# EAGLE library part MAXIM-MAX1168 (library personal)
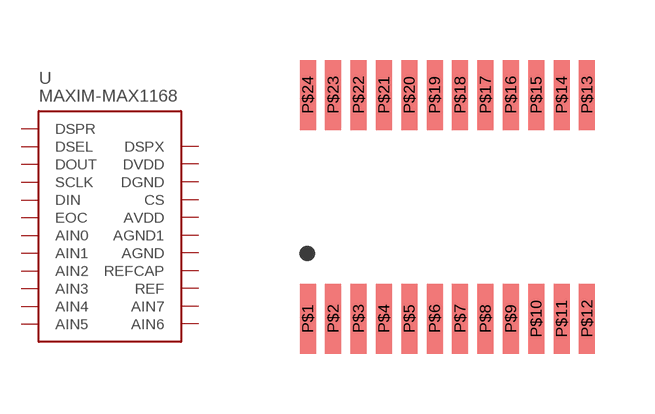
[diagram p4: symbol with the pads of QSOP-24; footprint QSOP-24]

Designator prefix U

## MAXIM-MAX1168  [QSOP-24]
P$1  DSPR  pas
P$2  DSEL  pas
P$3  DOUT  pas
P$4  SCLK  pas
P$5  DIN  pas
P$6  EOC  pas
P$7  AIN0  pas
P$8  AIN1  pas
P$9  AIN2  pas
P$10  AIN3  pas
P$11  AIN4  pas
P$12  AIN5  pas
P$13  AIN6  pas
P$14  AIN7  pas
P$15  REF  pas
P$16  REFCAP  pas
P$17  AGND  pas
P$18  AGND1  pas
P$19  AVDD  pas
P$20  CS  pas
P$21  DGND  pas
P$22  DVDD  pas
P$23  DSPX  pas

## Footprint QSOP-24 (pad centres in mm)
smd 0.4 x 1.75: P$1 -3.493,-2.8; P$2 -2.857,-2.8; P$3 -2.223,-2.8; P$4 -1.587,-2.8; P$5 -0.953,-2.8; P$6 -0.318,-2.8; P$7 0.318,-2.8; P$8 0.953,-2.8; P$9 1.587,-2.8; P$10 2.223,-2.8; P$11 2.857,-2.8; P$12 3.493,-2.8; P$13 3.493,2.8; P$14 2.857,2.8; P$15 2.223,2.8; P$16 1.587,2.8; P$17 0.953,2.8; P$18 0.318,2.8; P$19 -0.318,2.8; P$20 -0.953,2.8; P$21 -1.587,2.8; P$22 -2.223,2.8; P$23 -2.857,2.8; P$24 -3.493,2.8